# Altium footprint library SecureBot.PcbLib: 69 footprints (part 1 of 5)
Each footprint in its own frame and in the unit in brackets; x right, y up, seen from the top. Pads: shape width x height; smd on the part's side, far side on the other; paste and mask are expansions set on the pad; w line width, h text height; cw(c..) or ccw(c..) is an arc to the next point about the centre after c.
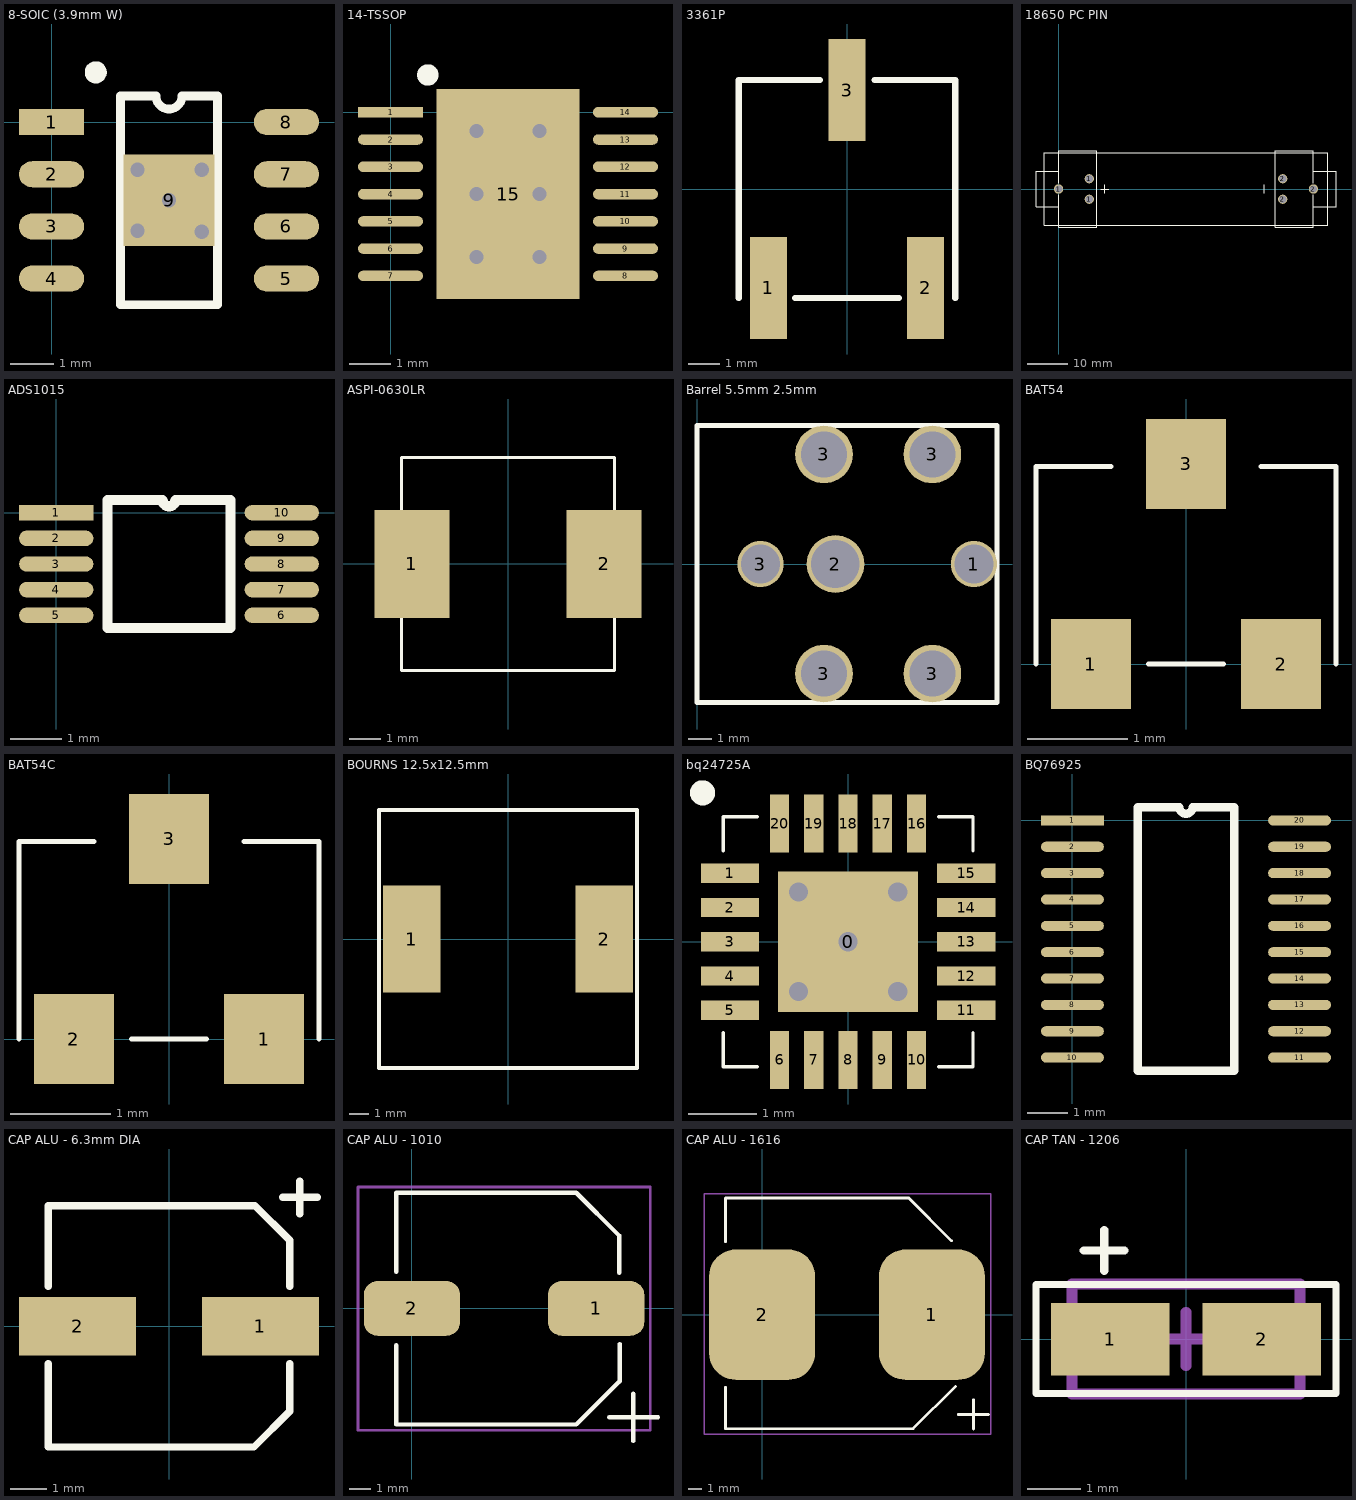
[diagram p0: the footprints below, top view; thin cyan lines are the x and y axes]

## 8-SOIC (3.9mm W) [mm]
pads (9):
  rect 1.5x0.6 smd: 1(0,0)
  oval 1.5x0.6 smd: 2(0,-1.2) 3(0,-2.4) 4(0,-3.6) 5(5.4,-3.6) 6(5.4,-2.4) 7(5.4,-1.2) 8(5.4,0)
  rect 2.1x2.1 smd: 9(2.7,-1.8)
via 2.7,-1.8 diameter 0.6 hole 0.33
via 1.975,-2.5 diameter 0.6 hole 0.33
via 3.45,-2.525 diameter 0.6 hole 0.33
via 3.45,-1.1 diameter 0.6 hole 0.33
via 1.975,-1.1 diameter 0.6 hole 0.33
Top Overlay:
  circle w0.254: c1.016,1.143 r0.127
  lines w0.2: 1.585,-4.2 1.585,0.6 2.4,0.6 ccw(c2.7,0.6) 3,0.6 3.815,0.6 3.815,-4.2 1.585,-4.2

## 14-TSSOP [mm]
pads (15):
  rect 1.55x0.25 smd: 1(0,0)
  oval 1.55x0.25 smd: 2(0,-0.65) 3(0,-1.3) 4(0,-1.95) 5(0,-2.6) 6(0,-3.25) 7(0,-3.9) 8(5.6,-3.9) 9(5.6,-3.25) 10(5.6,-2.6) 11(5.6,-1.95) 12(5.6,-1.3) 13(5.6,-0.65) 14(5.6,0)
  rect 3.4x5 smd paste-5 mask-5: 15(2.8,-1.95)
via 2.05,-3.45 diameter 0.6 hole 0.33
via 3.55,-3.45 diameter 0.6 hole 0.33
via 2.05,-0.45 diameter 0.6 hole 0.33
via 3.55,-0.45 diameter 0.6 hole 0.33
via 2.05,-1.95 diameter 0.6 hole 0.33
via 3.55,-1.95 diameter 0.6 hole 0.33
Top Overlay:
  circle w0.254: c0.889,0.889 r0.127
  lines w0.2: 1.61,-4.225 1.61,0.325 2.638,0.325 ccw(c2.8,0.325) 2.962,0.325 3.99,0.325 3.99,-4.225 1.61,-4.225
Top Paste:
  rectangle: 1.57,-3.105 4.03,-0.795
Top Solder:
  rectangle: 1.57,-3.105 4.03,-0.795

## 3361P [mm] "3361P potentiometer series"
pads (3):
  rect 1.19x3.3 smd: 1(-2.54,-3.2) 2(2.54,-3.2) 3(0,3.2)
Top Overlay:
  lines w0.2: -3.5,-3.52 -3.5,3.52 -0.875,3.52 ; -1.675,-3.52 1.675,-3.52 ; 0.9,3.52 3.5,3.52 3.5,-3.52

## 18650 PC PIN [mm]
pads (6):
  round 2.3 hole 1.83: 1(0,0) 1(7.62,-2.54) 1(7.62,2.54) 2(55.62,-2.54) 2(55.62,2.54) 2(63.24,0)
Top Overlay:
  lines w0.2: 0,-1.425 0,-4.445 ; 0,1.425 0,4.445 ; 10.425,0 12.425,0 ; 11.425,-1 11.425,1 ; 51,-1 51,1 ; 63.24,-4.445 68.84,-4.445 68.84,4.445 63.24,4.445 ; 63.24,-1.45 63.24,-9.5 53.72,-9.5 53.72,9.5 63.24,9.5 63.24,1.475 ; 0,-4.445 0,-9.5 9.52,-9.5 9.52,9.5 0,9.5 0,4.445 ; 0,-4.445 -5.6,-4.445 -5.6,4.445 0,4.445 ; -3.6,-9 -3.6,9 66.84,9 66.84,-9 -3.6,-9

## ADS1015 [mm]
pads (10):
  rect 1.45x0.3 smd: 1(0,0)
  oval 1.45x0.3 smd: 2(0,-0.5) 3(0,-1) 4(0,-1.5) 5(0,-2) 6(4.4,-2) 7(4.4,-1.5) 8(4.4,-1) 9(4.4,-0.5) 10(4.4,0)
Top Overlay:
  lines w0.2: 1,-2.25 3.4,-2.25 3.4,0.25 2.325,0.25 cw(c2.2,0.25) 2.075,0.25 1,0.25 1,-2.25

## ASPI-0630LR [mm]
pads (2):
  rect 2.35x3.4 smd: 1(-3.025,0) 2(3.025,0)
Top Overlay:
  lines w0.1: -3.35,-1.675 -3.35,-3.35 3.35,-3.35 3.35,-1.675 ; -3.35,1.675 -3.35,3.35 3.35,3.35 3.35,1.675

## Barrel 5.5mm 2.5mm [mm]
pads (7):
  round 2 hole 1.7: 1(12,0) 3(2.75,0)
  round 2.5 hole 2.1: 2(6,0)
  round 2.5 hole 2: 3(5.5,-4.75) 3(5.5,4.75) 3(10.2,-4.75) 3(10.2,4.75)
Top Overlay:
  lines w0.2: 0,-6 0,0 0,6 13,6 13,0 13,-6 0,-6

## BAT54 [mm]
pads (3):
  rect 0.8x0.9 smd: 1(-0.95,0) 2(0.95,0) 3(0,2)
Top Overlay:
  lines w0.05: -1.5,0 -1.5,1.975 -0.75,1.975 ; -0.375,0 0,0 0.375,0 ; 0.75,1.975 1.5,1.975 1.5,0

## BAT54C [mm]
pads (3):
  rect 0.8x0.9 smd: 1(0.95,0) 2(-0.95,0) 3(0,2)
Top Overlay:
  lines w0.05: -1.5,0 -1.5,1.975 -0.75,1.975 ; -0.375,0 0,0 0.375,0 ; 0.75,1.975 1.5,1.975 1.5,0

## BOURNS 12.5x12.5mm [mm]
pads (2):
  rect 2.9x5.4 smd: 1(-4.85,0) 2(4.85,0)
Top Overlay:
  lines w0.2: -6.5,-6.5 -6.5,6.5 6.5,6.5 6.5,-6.5 -6.5,-6.5

## bq24725A [mm]
pads (21):
  rect 2.05x2.05 smd: 0(0,0)
  rect 0.85x0.28 smd: 1(-1.725,1) 2(-1.725,0.5) 3(-1.725,0) 4(-1.725,-0.5) 5(-1.725,-1) 11(1.725,-1) 12(1.725,-0.5) 13(1.725,0) 14(1.725,0.5) 15(1.725,1)
  rect 0.28x0.85 smd: 6(-1,-1.725) 7(-0.5,-1.725) 8(0,-1.725) 9(0.5,-1.725) 10(1,-1.725) 16(1,1.725) 17(0.5,1.725) 18(0,1.725) 19(-0.5,1.725) 20(-1,1.725)
via 0,0 diameter 0.559 hole 0.279
via -0.725,0.725 diameter 0.559 hole 0.279
via -0.725,-0.725 diameter 0.559 hole 0.279
via 0.725,-0.725 diameter 0.559 hole 0.279
via 0.725,0.725 diameter 0.559 hole 0.279
Top Overlay:
  circle w0.254: c-2.125,2.175 r0.056
  lines w0.05: -1.825,-1.325 -1.825,-1.825 -1.325,-1.825 ; -1.825,1.325 -1.825,1.825 -1.325,1.825 ; 1.325,-1.825 1.825,-1.825 1.825,-1.325 ; 1.325,1.825 1.825,1.825 1.825,1.325

## BQ76925 [mm]
pads (20):
  rect 1.55x0.25 smd: 1(0,0)
  oval 1.55x0.25 smd: 2(0,-0.65) 3(0,-1.3) 4(0,-1.95) 5(0,-2.6) 6(0,-3.25) 7(0,-3.9) 8(0,-4.55) 9(0,-5.2) 10(0,-5.85) 11(5.6,-5.85) 12(5.6,-5.2) 13(5.6,-4.55) 14(5.6,-3.9) 15(5.6,-3.25) 16(5.6,-2.6) 17(5.6,-1.95) 18(5.6,-1.3) 19(5.6,-0.65) 20(5.6,0)
Top Overlay:
  lines w0.2: 1.61,-6.175 1.61,0.325 2.638,0.325 ccw(c2.8,0.325) 2.962,0.325 3.99,0.325 3.99,-6.175 1.61,-6.175

## CAP ALU - 6.3mm DIA [mm]
pads (2):
  rect 3.2x1.6 smd: 1(2.5,0) 2(-2.5,0)
Top Overlay:
  lines w0.2: -3.3,-1.025 -3.3,-3.3 2.325,-3.3 3.3,-2.325 3.3,-1.025 ; -3.3,1.1 -3.3,3.3 2.35,3.3 3.3,2.35 3.3,1.1 ; 3.1,3.525 4.05,3.525 ; 3.575,3.075 3.575,3.975

## CAP ALU - 1010 [mm]
pads (2):
  rrect50% 4.4x2.5 smd: 1(8.4,0) 2(0,0)
Top Overlay:
  lines w0.2: -0.725,-5.3 7.5,-5.3 9.45,-3.35 ; -0.725,-5.275 -0.725,-1.675 ; -0.725,1.675 -0.725,5.275 7.5,5.275 9.45,3.325 9.45,1.625 ; 9,-4.975 11.225,-4.975 ; 9.475,-3.325 9.475,-1.625 ; 10.1,-6.05 10.1,-3.9
Mechanical 15:
  lines w0.127: -2.464,-5.563 -2.464,5.537 10.871,5.537 10.871,-5.563 -2.464,-5.563
3D body "User Library-ALU-G.STEP": height 10.2, standoff 0, extent -1.4,-5.175 10.2,5.125

## CAP ALU - 1616 [mm]
pads (2):
  rrect50% 7.8x9.6 smd: 1(12.5,0) 2(0,0)
Top Overlay:
  lines w0.2: -2.7,-5.35 -2.7,-8.4 11.125,-8.4 14.238,-5.288 ; -2.7,5.375 -2.7,8.6 10.8,8.6 13.962,5.437 ; 14.45,-7.35 16.675,-7.35 ; 15.575,-8.425 15.575,-6.275
Mechanical 15:
  lines w0.1: -4.275,-8.825 16.85,-8.825 16.85,8.925 -4.275,8.925 -4.275,-8.825
3D body "SW3dPS-capacitor size J16.STEP": height 16.5, standoff -0.01, extent -2.7,-8.4 15,8.6

## CAP TAN - 1206 [mm]
pads (2):
  rect 2.2x1.35 smd: 1(-1.41,0) 2(1.41,0)
Top Overlay:
  lines w0.127: -2.794,-1.016 2.794,-1.016 2.794,1.016 -2.794,1.016 -2.794,-1.016
  lines w0.152: -1.905,1.651 -1.143,1.651 ; -1.524,1.27 -1.524,2.032
Mechanical 1:
  lines w0.2: -0.5,0 0,0 ; 0,-0.5 0,0 ; 0,0.5 0,0 ; 0.5,0 0,0 ; -2.125,-1.025 2.125,-1.025 2.125,1.025 -2.125,1.025 -2.125,-1.025
3D body "User Library-Tantalum Capacitor Case A.STEP": height 1.67, standoff 0.02, extent -1.799,-0.827 1.591,0.773